# Altium integrated library Microchip Touch Screen Controller.IntLib: 26 symbols (part 2 of 2)
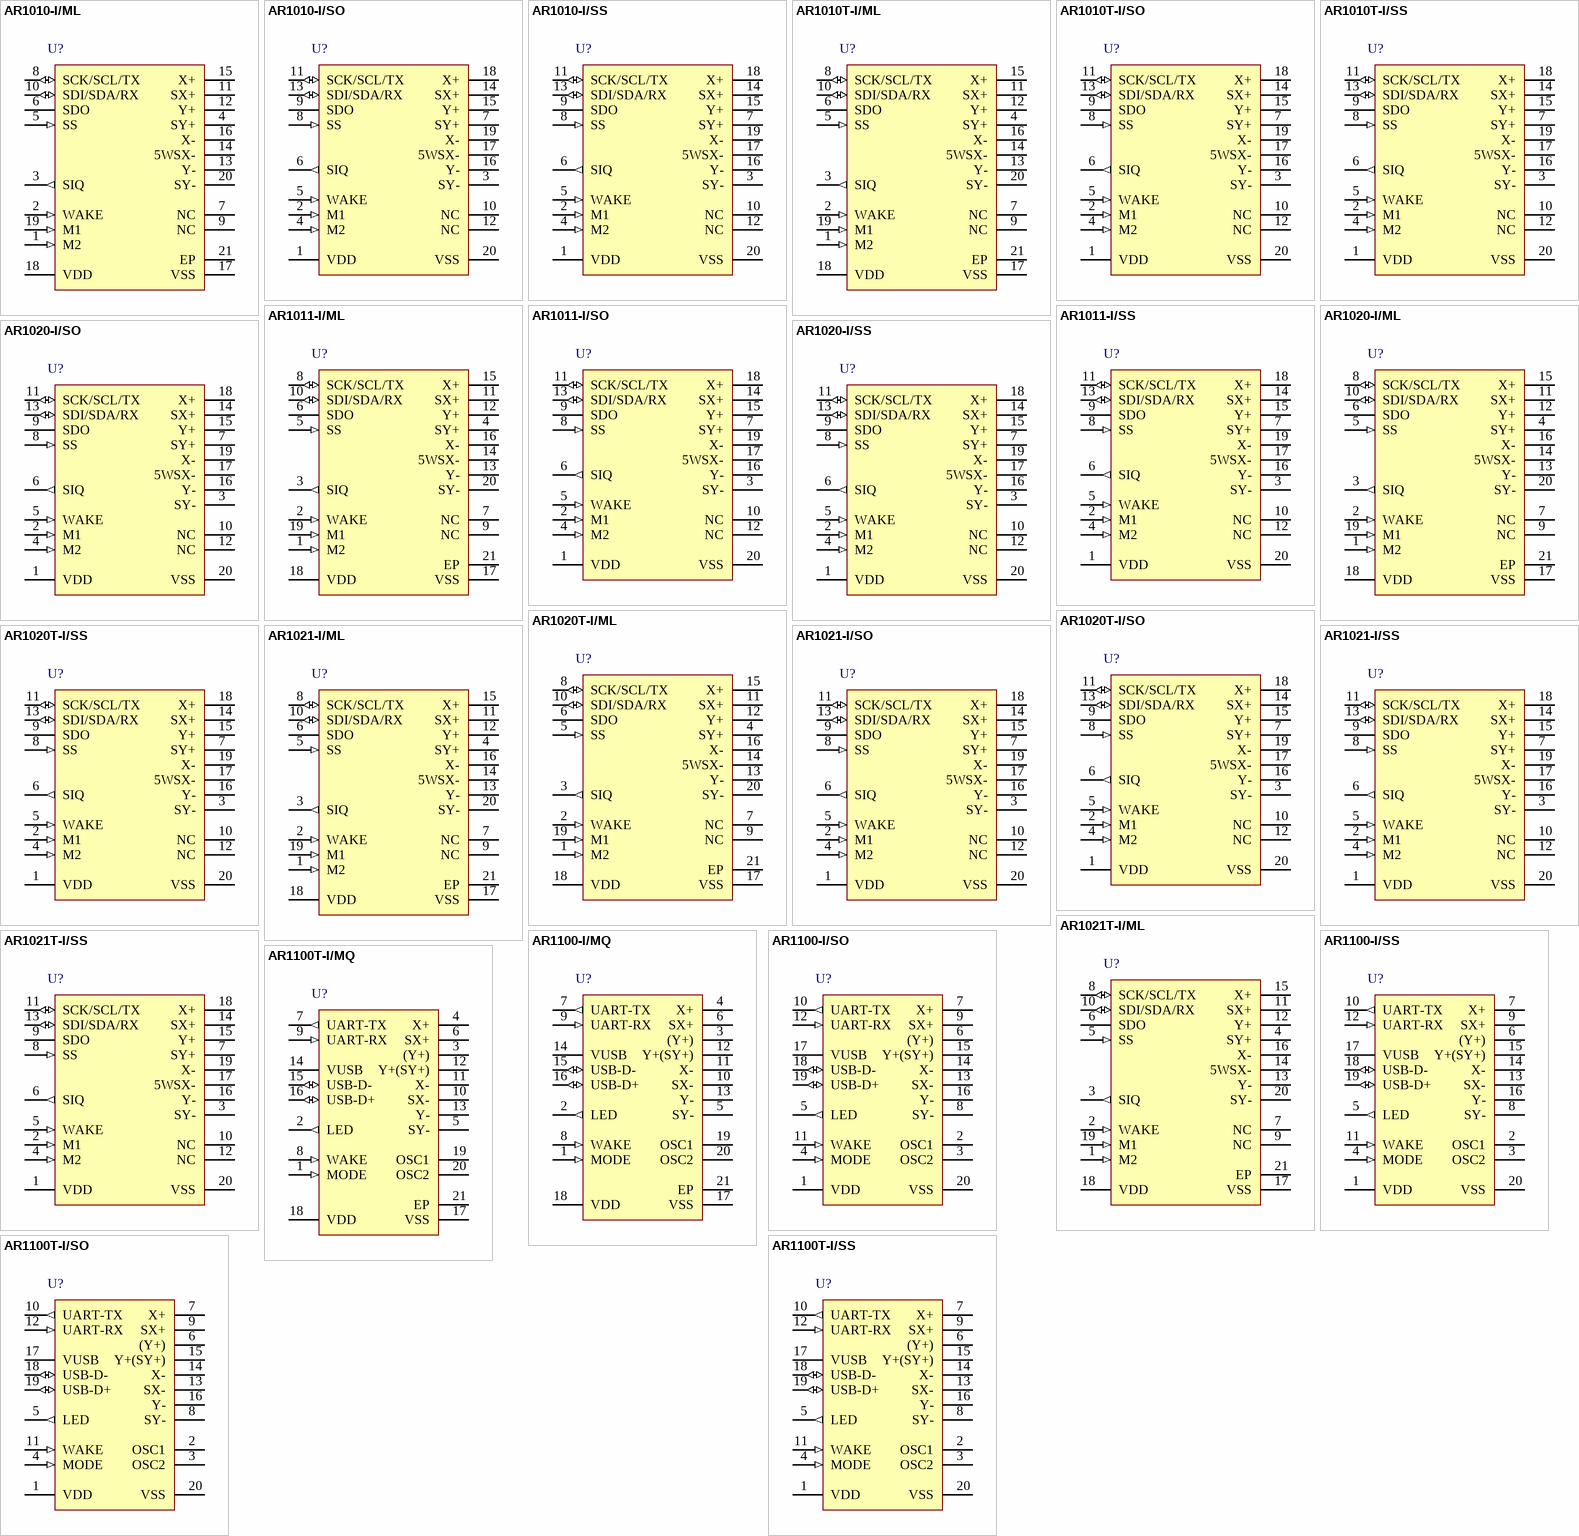
[diagram p1: symbols AR1010-I/ML to AR1100T-I/SS]

## AR1100-I/MQ
designator U?
AR1100 Resistive USB and RS-232 Touch Screen Controller, 1024 x 1024 Resolution, 3.3 Vdc, 5.5 Vdc power, USB, UART Communication, -40 to 85 degC, 20-pin QFN (MQ20), Tube; Manufacturer: Microchip; PartNumber: AR1100-I/MQ; DatasheetVersion: Rev. B; PackageVersion: C04-139B; PackageReference: QFN-MQ20; PackageDescription: 20-Lead Plastic Quad Flat, No Lead Package, 5 x 5 mm Body, 0.65 mm Pitch; Supplier 1: Digi-Key; Supplier Part Number 1: AR1100-I/MQ-ND; Supplier 2: Farnell; Supplier Part Number 2: 2065561; Supplier 3: Newark; Supplier Part Number 3: 58T8311; Supplier 4: Mouser; Supplier Part Number 4: 579-AR1100-I/MQ; Mounting Technology: Surface Mount; ComponentLink1Description: Manufacturer URL; ComponentLink1URL: http://www.microchip.com; ComponentLink2Description: Datasheet; ComponentLink2URL: http://ww1.microchip.com/downloads/en/DeviceDoc/41606B.pdf; ComponentLink3Description: Package Specification; ComponentLink3URL: http://www.microchip.com/stellent/groups/techpub_sg/documents/packagingspec/en012702.pdf; ComponentLink4Description: Product URL; ComponentLink4URL: http://www.microchip.com/AR1100
footprint MCHP-QFN-MQ20_N (QFN, 20-Leads, Body 5x5mm, Pitch 0.65mm, Thermal Pad 3.25x3.25mm, IPC Medium Density)
footprint MCHP-QFN-MQ20_L (QFN, 20-Leads, Body 5x5mm, Pitch 0.65mm, Thermal Pad 3.25x3.25mm, IPC High Density)
footprint MCHP-QFN-MQ20_M (QFN, 20-Leads, Body 5x5mm, Pitch 0.65mm, Thermal Pad 3.25x3.25mm, IPC Low Density)
pins: 1 MODE (in) "GND: 5-Wire Open: 4-/8-Wire", 2 LED (out) "Led control", 3 (Y+) "Sensor connection 4W: n/a 5W: n/a 8W: Y+", 4 X+ "Sensor connection", 5 SY- "Sensor connection", 6 SX+ "Sensor connection", 7 UART-TX (out) "UART Transmit Data", 8 WAKE (in) "Wake pin", 9 UART-RX (in) "UART Receive Data", 10 SX- "Sensor connection 4W: n/a 5W: WSX- 8W: SX-", 11 X- "Sensor connection", 12 Y+(SY+) "Sensor connection 4W: Y+ 5W: Y+ 8W: SY+", 13 Y- "Sensor connection", 14 VUSB (power) "USB Internal Voltage Reference", 15 USB-D- (io) "USB data I/O", 16 USB-D+ (io) "USB data I/O", 17 VSS (power) "GND", 18 VDD (power) "Power", 19 OSC1 "Oscillator", 20 OSC2 "Oscillator", 21 EP

## AR1100-I/SO
designator U?
AR1100 Resistive USB and RS-232 Touch Screen Controller, 1024 x 1024 Resolution, 3.3 Vdc, 5.5 Vdc power, USB, UART Communication, -40 to 85 degC, 20-pin SOIC (SO20), Tube; Manufacturer: Microchip; PartNumber: AR1100-I/SO; DatasheetVersion: Rev. B; PackageVersion: C04-094C; PackageReference: SOIC-SO20; PackageDescription: 20-Lead Plastic Small Outline, 7.5 x 12.8 mm Body, 1.27 mm Pitch; Supplier 1: Digi-Key; Supplier Part Number 1: AR1100-I/SO-ND; Supplier 2: Farnell; Supplier Part Number 2: 2065562; Supplier 3: Newark; Supplier Part Number 3: 58T8312; Supplier 4: Mouser; Supplier Part Number 4: 579-AR1100-I/SO; Mounting Technology: Surface Mount; ComponentLink1Description: Manufacturer URL; ComponentLink1URL: http://www.microchip.com; ComponentLink2Description: Datasheet; ComponentLink2URL: http://ww1.microchip.com/downloads/en/DeviceDoc/41606B.pdf; ComponentLink3Description: Package Specification; ComponentLink3URL: http://www.microchip.com/stellent/groups/techpub_sg/documents/packagingspec/en012702.pdf; ComponentLink4Description: Product URL; ComponentLink4URL: http://www.microchip.com/AR1100
footprint MCHP-SOIC-SO20_N (SOIC, 20-Leads, Body 12.8x7.5mm, Pitch 1.27mm, , IPC Medium Density)
footprint MCHP-SOIC-SO20_L (SOIC, 20-Leads, Body 12.8x7.5mm, Pitch 1.27mm, , IPC High Density)
footprint MCHP-SOIC-SO20_M (SOIC, 20-Leads, Body 12.8x7.5mm, Pitch 1.27mm, , IPC Low Density)
pins: 1 VDD (power) "Power", 2 OSC1 "Oscillator", 3 OSC2 "Oscillator", 4 MODE (in) "GND: 5-Wire Open: 4-/8-Wire", 5 LED (out) "Led control", 6 (Y+) "Sensor connection 4W: n/a 5W: n/a 8W: Y+", 7 X+ "Sensor connection", 8 SY- "Sensor connection", 9 SX+ "Sensor connection", 10 UART-TX (out) "UART Transmit Data", 11 WAKE (in) "Wake pin", 12 UART-RX (in) "UART Receive Data", 13 SX- "Sensor connection 4W: n/a 5W: WSX- 8W: SX-", 14 X- "Sensor connection", 15 Y+(SY+) "Sensor connection 4W: Y+ 5W: Y+ 8W: SY+", 16 Y- "Sensor connection", 17 VUSB (power) "USB Internal Voltage Reference", 18 USB-D- (io) "USB data I/O", 19 USB-D+ (io) "USB data I/O", 20 VSS (power) "GND"

## AR1100-I/SS
designator U?
AR1100 Resistive USB and RS-232 Touch Screen Controller, 1024 x 1024 Resolution, 3.3 Vdc, 5.5 Vdc power, USB, UART Communication, -40 to 85 degC, 20-pin SSOP (SS20), Tube; Manufacturer: Microchip; PartNumber: AR1100-I/SS; DatasheetVersion: Rev. B; PackageVersion: C04-072B; PackageReference: SSOP-SS20; PackageDescription: 20-Lead Plastic Shrink Small Outline, 5.3 x 7.2 mm Body, 0.65 mm Pitch; Supplier 1: Digi-Key; Supplier Part Number 1: AR1100-I/SS-ND; Supplier 2: Farnell; Supplier Part Number 2: 2065564; Supplier 3: Newark; Supplier Part Number 3: 58T8313; Supplier 4: Mouser; Supplier Part Number 4: 579-AR1100-I/SS; Mounting Technology: Surface Mount; ComponentLink1Description: Manufacturer URL; ComponentLink1URL: http://www.microchip.com; ComponentLink2Description: Datasheet; ComponentLink2URL: http://ww1.microchip.com/downloads/en/DeviceDoc/41606B.pdf; ComponentLink3Description: Package Specification; ComponentLink3URL: http://www.microchip.com/stellent/groups/techpub_sg/documents/packagingspec/en012702.pdf; ComponentLink4Description: Product URL; ComponentLink4URL: http://www.microchip.com/AR1100
footprint MCHP-SSOP-SS20_N (SOP, 20-Leads, Body 7.2x5.3mm, Pitch 0.65mm, IPC Medium Density)
footprint MCHP-SSOP-SS20_L (SOP, 20-Leads, Body 7.2x5.3mm, Pitch 0.65mm, IPC High Density)
footprint MCHP-SSOP-SS20_M (SOP, 20-Leads, Body 7.2x5.3mm, Pitch 0.65mm, IPC Low Density)
pins: 1 VDD (power) "Power", 2 OSC1 "Oscillator", 3 OSC2 "Oscillator", 4 MODE (in) "GND: 5-Wire Open: 4-/8-Wire", 5 LED (out) "Led control", 6 (Y+) "Sensor connection 4W: n/a 5W: n/a 8W: Y+", 7 X+ "Sensor connection", 8 SY- "Sensor connection", 9 SX+ "Sensor connection", 10 UART-TX (out) "UART Transmit Data", 11 WAKE (in) "Wake pin", 12 UART-RX (in) "UART Receive Data", 13 SX- "Sensor connection 4W: n/a 5W: WSX- 8W: SX-", 14 X- "Sensor connection", 15 Y+(SY+) "Sensor connection 4W: Y+ 5W: Y+ 8W: SY+", 16 Y- "Sensor connection", 17 VUSB (power) "USB Internal Voltage Reference", 18 USB-D- (io) "USB data I/O", 19 USB-D+ (io) "USB data I/O", 20 VSS (power) "GND"

## AR1100T-I/MQ
designator U?
AR1100 Resistive USB and RS-232 Touch Screen Controller, 1024 x 1024 Resolution, 5% power, USB, UART Communication, -40 to 85 degC, 20-pin QFN (MQ20), Tape and Reel; Manufacturer: Microchip; PartNumber: AR1100T-I/MQ; DatasheetVersion: Rev. B; PackageVersion: C04-139B; PackageReference: QFN-MQ20; PackageDescription: 20-Lead Plastic Quad Flat, No Lead Package, 5 x 5 mm Body, 0.65 mm Pitch; Supplier 1: Digi-Key; Supplier Part Number 1: AR1100T-I/MQ-ND; Supplier 2: Newark; Supplier Part Number 2: 58T8315; Supplier 3: Mouser; Supplier Part Number 3: 579-AR1100T-I/MQ; Mounting Technology: Surface Mount; ComponentLink1Description: Manufacturer URL; ComponentLink1URL: http://www.microchip.com; ComponentLink2Description: Datasheet; ComponentLink2URL: http://ww1.microchip.com/downloads/en/DeviceDoc/41606B.pdf; ComponentLink3Description: Package Specification; ComponentLink3URL: http://www.microchip.com/stellent/groups/techpub_sg/documents/packagingspec/en012702.pdf; ComponentLink4Description: Product URL; ComponentLink4URL: http://www.microchip.com/AR1100
footprint MCHP-QFN-MQ20_N (QFN, 20-Leads, Body 5x5mm, Pitch 0.65mm, Thermal Pad 3.25x3.25mm, IPC Medium Density)
footprint MCHP-QFN-MQ20_L (QFN, 20-Leads, Body 5x5mm, Pitch 0.65mm, Thermal Pad 3.25x3.25mm, IPC High Density)
footprint MCHP-QFN-MQ20_M (QFN, 20-Leads, Body 5x5mm, Pitch 0.65mm, Thermal Pad 3.25x3.25mm, IPC Low Density)
pins: 1 MODE (in) "GND: 5-Wire Open: 4-/8-Wire", 2 LED (out) "Led control", 3 (Y+) "Sensor connection 4W: n/a 5W: n/a 8W: Y+", 4 X+ "Sensor connection", 5 SY- "Sensor connection", 6 SX+ "Sensor connection", 7 UART-TX (out) "UART Transmit Data", 8 WAKE (in) "Wake pin", 9 UART-RX (in) "UART Receive Data", 10 SX- "Sensor connection 4W: n/a 5W: WSX- 8W: SX-", 11 X- "Sensor connection", 12 Y+(SY+) "Sensor connection 4W: Y+ 5W: Y+ 8W: SY+", 13 Y- "Sensor connection", 14 VUSB (power) "USB Internal Voltage Reference", 15 USB-D- (io) "USB data I/O", 16 USB-D+ (io) "USB data I/O", 17 VSS (power) "GND", 18 VDD (power) "Power", 19 OSC1 "Oscillator", 20 OSC2 "Oscillator", 21 EP

## AR1100T-I/SO
designator U?
AR1100 Resistive USB and RS-232 Touch Screen Controller, 1024 x 1024 Resolution, 5% power, USB, UART Communication, -40 to 85 degC, 20-pin SOIC (SO20), Tape and Reel; Manufacturer: Microchip; PartNumber: AR1100T-I/SO; DatasheetVersion: Rev. B; PackageVersion: C04-094C; PackageReference: SOIC-SO20; PackageDescription: 20-Lead Plastic Small Outline, 7.5 x 12.8 mm Body, 1.27 mm Pitch; Supplier 1: Digi-Key; Supplier Part Number 1: AR1100T-I/SO-ND; Supplier 2: Newark; Supplier Part Number 2: 58T8316; Supplier 3: Mouser; Supplier Part Number 3: 579-AR1100T-I/SO; Mounting Technology: Surface Mount; ComponentLink1Description: Manufacturer URL; ComponentLink1URL: http://www.microchip.com; ComponentLink2Description: Datasheet; ComponentLink2URL: http://ww1.microchip.com/downloads/en/DeviceDoc/41606B.pdf; ComponentLink3Description: Package Specification; ComponentLink3URL: http://www.microchip.com/stellent/groups/techpub_sg/documents/packagingspec/en012702.pdf; ComponentLink4Description: Product URL; ComponentLink4URL: http://www.microchip.com/AR1100
footprint MCHP-SOIC-SO20_N (SOIC, 20-Leads, Body 12.8x7.5mm, Pitch 1.27mm, , IPC Medium Density)
footprint MCHP-SOIC-SO20_L (SOIC, 20-Leads, Body 12.8x7.5mm, Pitch 1.27mm, , IPC High Density)
footprint MCHP-SOIC-SO20_M (SOIC, 20-Leads, Body 12.8x7.5mm, Pitch 1.27mm, , IPC Low Density)
pins: 1 VDD (power) "Power", 2 OSC1 "Oscillator", 3 OSC2 "Oscillator", 4 MODE (in) "GND: 5-Wire Open: 4-/8-Wire", 5 LED (out) "Led control", 6 (Y+) "Sensor connection 4W: n/a 5W: n/a 8W: Y+", 7 X+ "Sensor connection", 8 SY- "Sensor connection", 9 SX+ "Sensor connection", 10 UART-TX (out) "UART Transmit Data", 11 WAKE (in) "Wake pin", 12 UART-RX (in) "UART Receive Data", 13 SX- "Sensor connection 4W: n/a 5W: WSX- 8W: SX-", 14 X- "Sensor connection", 15 Y+(SY+) "Sensor connection 4W: Y+ 5W: Y+ 8W: SY+", 16 Y- "Sensor connection", 17 VUSB (power) "USB Internal Voltage Reference", 18 USB-D- (io) "USB data I/O", 19 USB-D+ (io) "USB data I/O", 20 VSS (power) "GND"

## AR1100T-I/SS
designator U?
AR1100 Resistive USB and RS-232 Touch Screen Controller, 1024 x 1024 Resolution, 5% power, USB, UART Communication, -40 to 85 degC, 20-pin SSOP (SS20), Tape and Reel; Manufacturer: Microchip; PartNumber: AR1100T-I/SS; DatasheetVersion: Rev. B; PackageVersion: C04-072B; PackageReference: SSOP-SS20; PackageDescription: 20-Lead Plastic Shrink Small Outline, 5.3 x 7.2 mm Body, 0.65 mm Pitch; Supplier 1: Digi-Key; Supplier Part Number 1: AR1100T-I/SS-ND; Supplier 2: Newark; Supplier Part Number 2: 58T8317; Supplier 3: Mouser; Supplier Part Number 3: 579-AR1100T-I/SS; Mounting Technology: Surface Mount; ComponentLink1Description: Manufacturer URL; ComponentLink1URL: http://www.microchip.com; ComponentLink2Description: Datasheet; ComponentLink2URL: http://ww1.microchip.com/downloads/en/DeviceDoc/41606B.pdf; ComponentLink3Description: Package Specification; ComponentLink3URL: http://www.microchip.com/stellent/groups/techpub_sg/documents/packagingspec/en012702.pdf; ComponentLink4Description: Product URL; ComponentLink4URL: http://www.microchip.com/AR1100
footprint MCHP-SSOP-SS20_N (SOP, 20-Leads, Body 7.2x5.3mm, Pitch 0.65mm, IPC Medium Density)
footprint MCHP-SSOP-SS20_L (SOP, 20-Leads, Body 7.2x5.3mm, Pitch 0.65mm, IPC High Density)
footprint MCHP-SSOP-SS20_M (SOP, 20-Leads, Body 7.2x5.3mm, Pitch 0.65mm, IPC Low Density)
pins: 1 VDD (power) "Power", 2 OSC1 "Oscillator", 3 OSC2 "Oscillator", 4 MODE (in) "GND: 5-Wire Open: 4-/8-Wire", 5 LED (out) "Led control", 6 (Y+) "Sensor connection 4W: n/a 5W: n/a 8W: Y+", 7 X+ "Sensor connection", 8 SY- "Sensor connection", 9 SX+ "Sensor connection", 10 UART-TX (out) "UART Transmit Data", 11 WAKE (in) "Wake pin", 12 UART-RX (in) "UART Receive Data", 13 SX- "Sensor connection 4W: n/a 5W: WSX- 8W: SX-", 14 X- "Sensor connection", 15 Y+(SY+) "Sensor connection 4W: Y+ 5W: Y+ 8W: SY+", 16 Y- "Sensor connection", 17 VUSB (power) "USB Internal Voltage Reference", 18 USB-D- (io) "USB data I/O", 19 USB-D+ (io) "USB data I/O", 20 VSS (power) "GND"